# EAGLE library part MQ_GAS_SENSOR_SOCKET (library gas_sensor_socket_mq_V2)
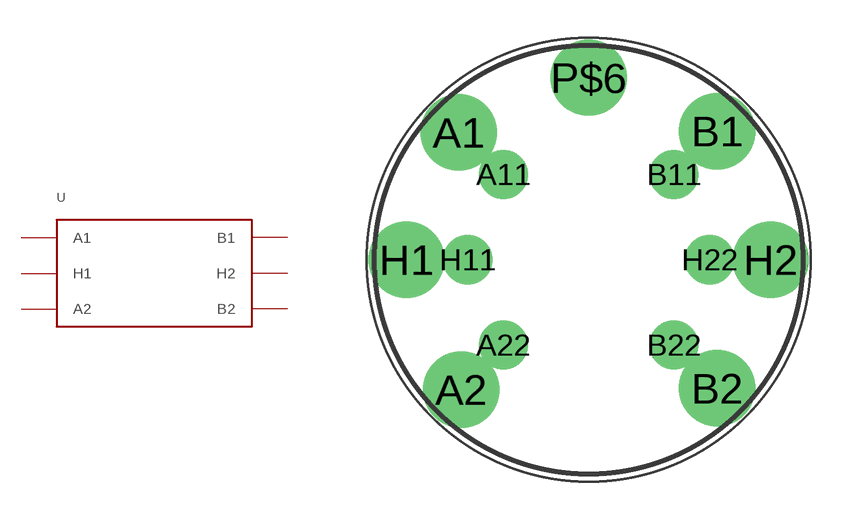
[diagram p0: symbol with the pads of GAS_SENSOR_SOCKET; footprint GAS_SENSOR_SOCKET]

Designator prefix -

## MQ_GAS_SENSOR_SOCKET  [GAS_SENSOR_SOCKET]
A1  A1
A2  A2
A11  A1
A22  A2
B1  B1
B2  B2
B11  B1
B22  B2
H1  H1
H2  H2
H11  H1
H22  H2

## Footprint GAS_SENSOR_SOCKET (pad centres in mm)
drill 2: A1 -5.1,5; A2 -5,-5.1; B1 5.05,5.05; B2 5.05,-5.05; H1 -7.15,0; H2 7.15,0; P$6 0,7.15
drill 1.016 pad 1.93: A11 -3.35,3.35; A22 -3.35,-3.35; B11 3.35,3.35; B22 3.35,-3.35; H11 -4.75,0; H22 4.75,0